# Altium footprint library components.PcbLib: 37 footprints (part 3 of 3)
Each footprint in its own frame and in the unit in brackets; x right, y up, seen from the top. Pads: shape width x height; smd on the part's side, far side on the other; paste and mask are expansions set on the pad; w line width, h text height; cw(c..) or ccw(c..) is an arc to the next point about the centre after c.
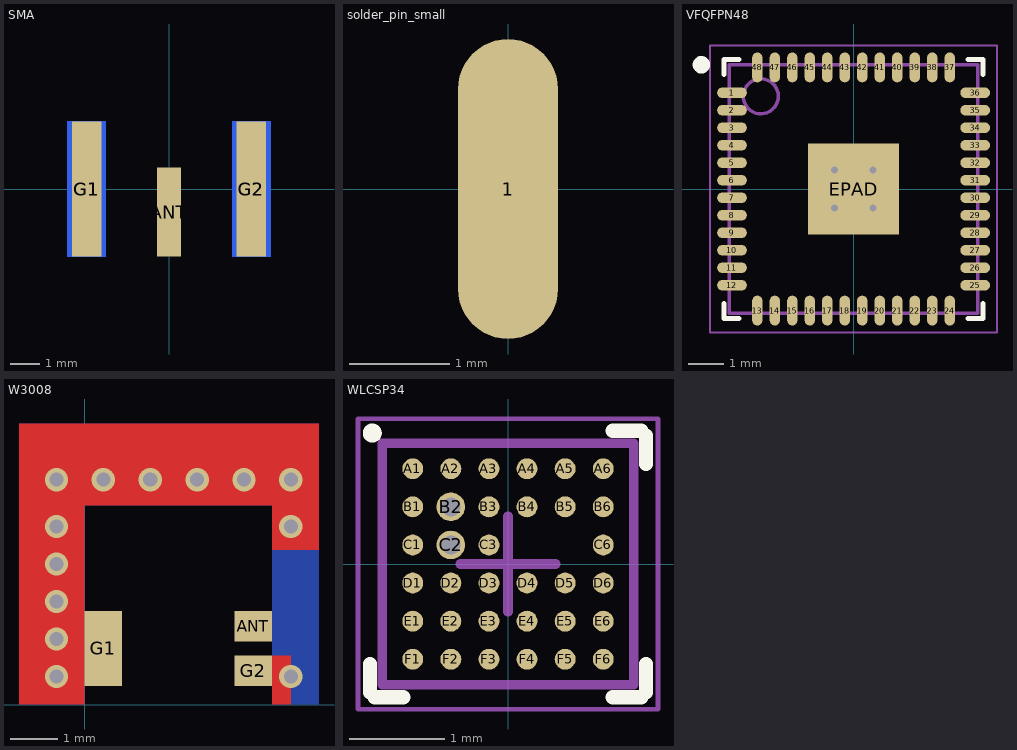
[diagram p2: the footprints below, top view; thin cyan lines are the x and y axes]

## SMA [mm]
pads (5):
  rect 0.82x3 smd: ANT(0,-0.78)
  rect 1x4.56 smd: G1(-2.775,0) G2(2.775,0)
  rect 1.3x4.56 smd far side: G1(-2.775,0) G2(2.775,0)

## solder_pin_small [mm] "pin for soldering"
pads (1):
  oval 1x3 smd: 1(0,0)

## VFQFPN48 [mm] "QFN, 48-Leads, Body 7.00x7.00mm, Pitch 0.50mm, Thermal Pad 2.60x2.60mm, IPC Medium Density"
height 0.95
pads (49):
  oval 0.85x0.3 smd: 1(-3.475,2.75) 2(-3.475,2.25) 3(-3.475,1.75) 4(-3.475,1.25) 5(-3.475,0.75) 6(-3.475,0.25) 7(-3.475,-0.25) 8(-3.475,-0.75) 9(-3.475,-1.25) 10(-3.475,-1.75) 11(-3.475,-2.25) 12(-3.475,-2.75) 25(3.475,-2.75) 26(3.475,-2.25) 27(3.475,-1.75) 28(3.475,-1.25) 29(3.475,-0.75) 30(3.475,-0.25) 31(3.475,0.25) 32(3.475,0.75) 33(3.475,1.25) 34(3.475,1.75) 35(3.475,2.25) 36(3.475,2.75)
  oval 0.3x0.85 smd: 13(-2.75,-3.475) 14(-2.25,-3.475) 15(-1.75,-3.475) 16(-1.25,-3.475) 17(-0.75,-3.475) 18(-0.25,-3.475) 19(0.25,-3.475) 20(0.75,-3.475) 21(1.25,-3.475) 22(1.75,-3.475) 23(2.25,-3.475) 24(2.75,-3.475) 37(2.75,3.475) 38(2.25,3.475) 39(1.75,3.475) 40(1.25,3.475) 41(0.75,3.475) 42(0.25,3.475) 43(-0.25,3.475) 44(-0.75,3.475) 45(-1.25,3.475) 46(-1.75,3.475) 47(-2.25,3.475) 48(-2.75,3.475)
  rect 2.6x2.6 smd: EPAD(0,0)
via -0.55,0.55 diameter 0.5 hole 0.2
via 0.55,0.55 diameter 0.5 hole 0.2
via -0.55,-0.55 diameter 0.5 hole 0.2
via 0.55,-0.55 diameter 0.5 hole 0.2
Top Overlay:
  circle w0.25: c-4.35,3.55 r0.125
  lines w0.15: -3.7,-3.275 -3.7,-3.7 -3.275,-3.7 ; -3.7,3.275 -3.7,3.7 -3.275,3.7 ; 3.275,-3.7 3.7,-3.7 3.7,-3.275 ; 3.275,3.7 3.7,3.7 3.7,3.275
Mechanical 13:
  circle w0.1: c-2.65,2.65 r0.5
  lines w0.1: -3.55,-3.55 -3.55,3.55 3.55,3.55 3.55,-3.55 -3.55,-3.55
Mechanical 15:
  lines w0.05: -4.1,-4.1 -4.1,4.1 4.1,4.1 4.1,-4.1 -4.1,-4.1
  lines w0.1: -0.5,0 0.5,0 ; 0,-0.5 0,0.5
3D body: height 0.95, standoff 0, extent -3.55,-3.55 3.55,3.55

## W3008 [mm]
pads (3):
  rect 0.8x0.65 smd paste+0 mask+0: ANT(3.6,1.675) G2(3.6,0.725)
  rect 0.8x1.6 smd paste+0 mask+0: G1(0.4,1.2)
via -0.6,0.6 diameter 0.5 hole 0.3
via -0.6,1.4 diameter 0.5 hole 0.3
via -0.6,2.2 diameter 0.5 hole 0.3
via -0.6,3 diameter 0.5 hole 0.3
via -0.6,3.8 diameter 0.5 hole 0.3
via 4.4,0.6 diameter 0.5 hole 0.3
via -0.6,4.8 diameter 0.5 hole 0.3
via 0.4,4.8 diameter 0.5 hole 0.3
via 1.4,4.8 diameter 0.5 hole 0.3
via 2.4,4.8 diameter 0.5 hole 0.3
via 3.4,4.8 diameter 0.5 hole 0.3
via 4.4,4.8 diameter 0.5 hole 0.3
via 4.4,3.8 diameter 0.5 hole 0.3
Top Layer:
  rectangle: 4,0 4.4,1.05
  rectangle: 4,3.3 5,6
  rectangle: -0.2,4.25 4.8,6
  rectangle: -1.4,0 0,6
Bottom Layer:
  rectangle: -1,4.25 5,6
  rectangle: 4,0 5,6
  rectangle: -1.4,0 0,6
Top Solder:
  rectangle: 0,0 4,4.25

## WLCSP34 [mm] "BGA, 34-Leads, Body 2.64x2.54mmx0.50mm, Pitch 0.40mm"
height 0.5
pads (34):
  round 0.22 smd: A1(-1,1) A2(-0.6,1) A3(-0.2,1) A4(0.2,1) A5(0.6,1) A6(1,1) B1(-1,0.6) B3(-0.2,0.6) B4(0.2,0.6) B5(0.6,0.6) B6(1,0.6) C1(-1,0.2) C3(-0.2,0.2) C6(1,0.2) D1(-1,-0.2) D2(-0.6,-0.2) D3(-0.2,-0.2) D4(0.2,-0.2) D5(0.6,-0.2) D6(1,-0.2) E1(-1,-0.6) E2(-0.6,-0.6) E3(-0.2,-0.6) E4(0.2,-0.6) E5(0.6,-0.6) E6(1,-0.6) F1(-1,-1) F2(-0.6,-1) F3(-0.2,-1) F4(0.2,-1) F5(0.6,-1) F6(1,-1)
  round 0.3 hole 0.2: B2(-0.6,0.6) C2(-0.6,0.2)
Top Overlay:
  circle w0.1: c-1.425,1.375 r0.05
  lines w0.15: -1.45,-1.35 -1.45,-1.05 ; -1.4,-1.4 -1.1,-1.4 ; 1.1,-1.4 1.4,-1.4 ; 1.1,1.4 1.4,1.4 ; 1.45,-1.35 1.45,-1.05 ; 1.45,1.05 1.45,1.35
Mechanical 13:
  lines w0.1: -1.32,-1.27 -1.32,1.27 1.32,1.27 1.32,-1.27 -1.32,-1.27
Mechanical 15:
  lines w0.05: -1.575,-1.525 -1.575,1.525 1.575,1.525 1.575,-1.525 -1.575,-1.525
  lines w0.1: -0.5,0 0.5,0 ; 0,-0.5 0,0.5
3D body: height 0.5, standoff 0.2, extent -1.32,-1.27 1.32,1.27